# EAGLE library part TCA9535 (library RitLaunchInitiative)
IC I/O EXPANDER I2C 16B 24WQFN | http://www.ti.com/lit/ds/symlink/tca9535.pdf |
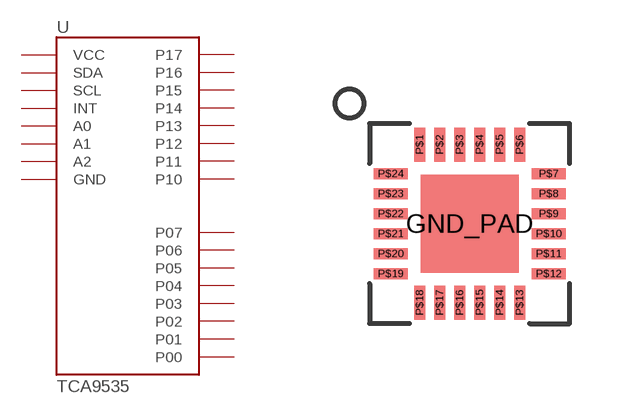
[diagram p18: symbol with the pads of 24-WQFN; footprint 24-WQFN]

Designator prefix U

## TCA9535  [24-WQFN]
GND_PAD  GND
P$1  P00
P$2  P01
P$3  P02
P$4  P03
P$5  P04
P$6  P05
P$7  P06
P$8  P07
P$9  GND
P$10  P10
P$11  P11
P$12  P12
P$13  P13
P$14  P14
P$15  P15
P$16  P16
P$17  P17
P$18  A0
P$19  SCL
P$20  SDA
P$21  VCC
P$22  INT
P$23  A1
P$24  A2

## Footprint 24-WQFN (pad centres in mm)
smd 2.45 x 2.45: GND_PAD 0,0
smd 0.28 x 0.85: P$1 -1.25,1.975; P$2 -0.75,1.975; P$3 -0.25,1.975; P$4 0.25,1.975; P$5 0.75,1.975; P$6 1.25,1.975; P$13 1.25,-1.975; P$14 0.75,-1.975; P$15 0.25,-1.975; P$16 -0.25,-1.975; P$17 -0.75,-1.975; P$18 -1.25,-1.975
smd 0.85 x 0.28: P$7 1.975,1.25; P$8 1.975,0.75; P$9 1.975,0.25; P$10 1.975,-0.25; P$11 1.975,-0.75; P$12 1.975,-1.25; P$19 -1.975,-1.25; P$20 -1.975,-0.75; P$21 -1.975,-0.25; P$22 -1.975,0.25; P$23 -1.975,0.75; P$24 -1.975,1.25